# Altium schematic symbol library EP2C20F484C8N.Schlib: 1 symbol
Pins are listed as number, name and electrical type; pins without a type are passive.

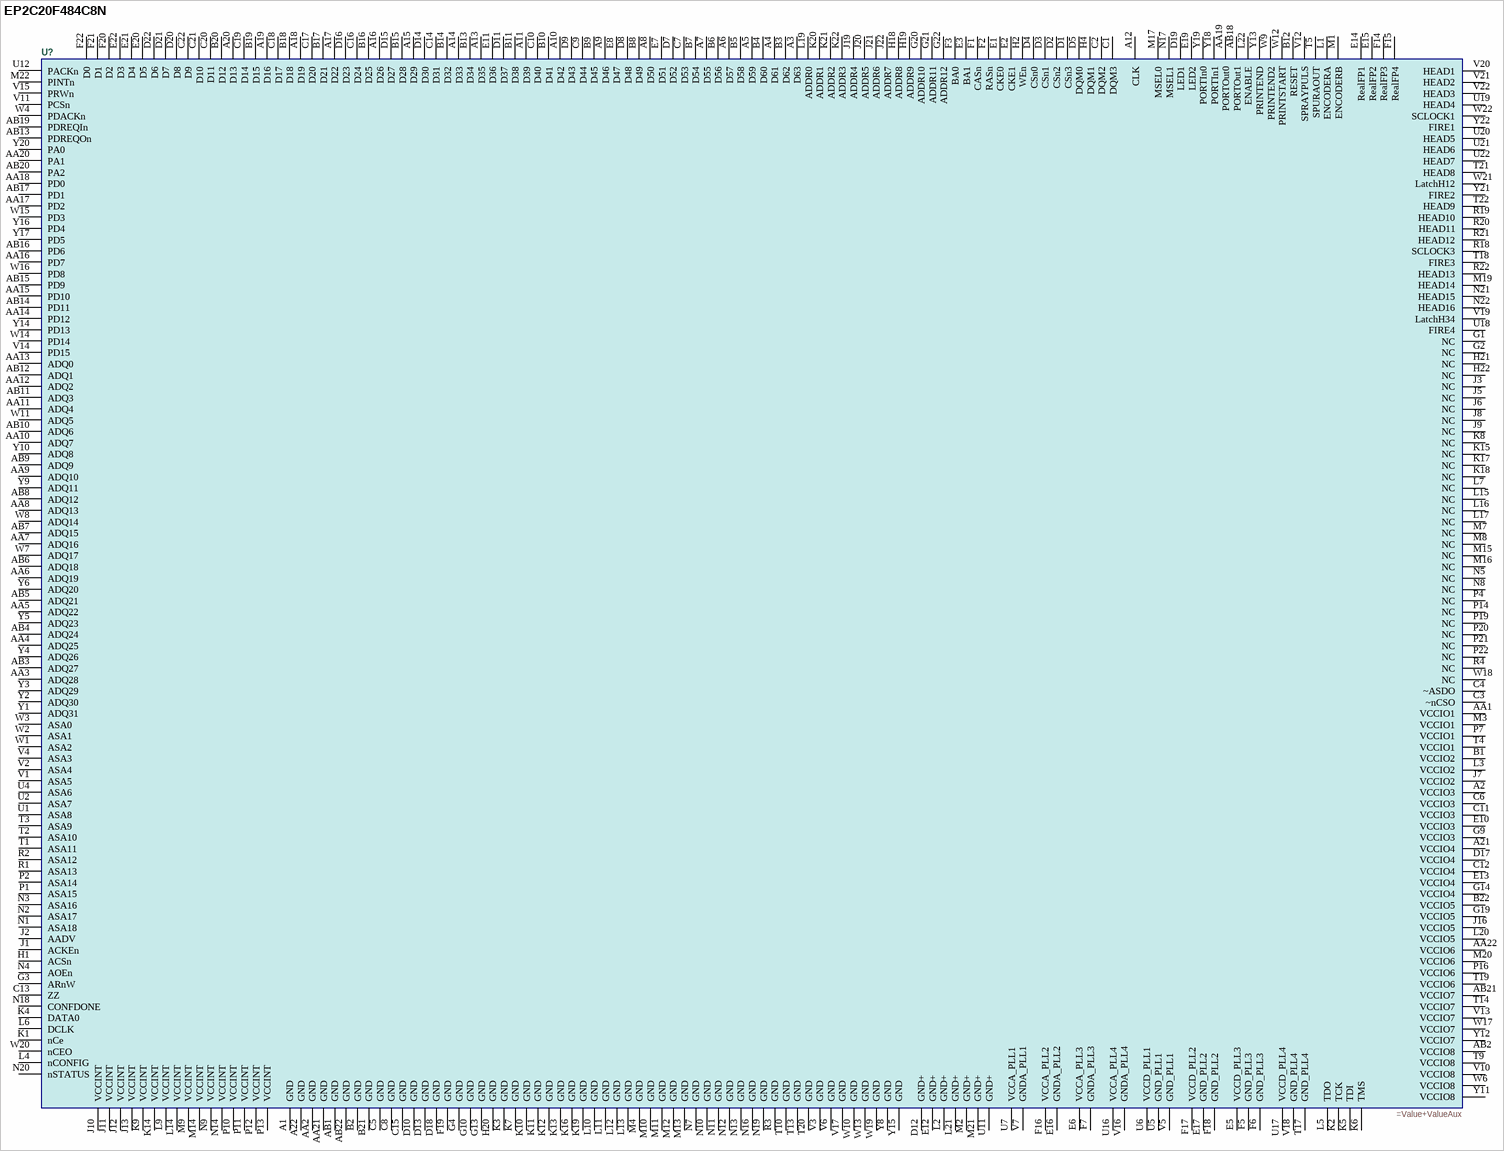
[diagram p0: symbol EP2C20F484C8N]

## EP2C20F484C8N
designator U?
=Description
pins: A1 GND, A2 VCCIO3, A3 D63, A4 D61, A5 D59, A6 D57, A7 D55, A8 D50, A9 D46, A10 D42, A11 D39, A12 CLK, A13 D35, A14 D33, A15 D29, A16 D26, A17 D22, A18 D19, A19 D16, A20 D13, A21 VCCIO4, A22 GND, AA1 VCCIO1, AA2 GND, AA3 ADQ28, AA4 ADQ25, AA5 ADQ22, AA6 ADQ19, AA7 ADQ16, AA8 ADQ13, AA9 ADQ10, AA10 ADQ7, AA11 ADQ4, AA12 ADQ2, AA13 ADQ0, AA14 PD12, AA15 PD10, AA16 PD7, AA17 PD2, AA18 PD0, AA19 PORTOut0, AA20 PA1, AA21 GND, AA22 VCCIO6, AB1 GND, AB2 VCCIO8, AB3 ADQ27, AB4 ADQ24, AB5 ADQ21, AB6 ADQ18, AB7 ADQ15, AB8 ADQ12, AB9 ADQ9, AB10 ADQ6, AB11 ADQ3, AB12 ADQ1, AB13 PDREQOn, AB14 PD11, AB15 PD9, AB16 PD6, AB17 PD1, AB18 PORTOut1, AB19 PDREQIn, AB20 PA2, AB21 VCCIO7, AB22 GND, B1 VCCIO2, B2 GND, B3 D62, B4 D60, B5 D58, B6 D56, B7 D54, B8 D49, B9 D45, B10 D41, B11 D38, B12 RESET, B13 D34, B14 D32, B15 D28, B16 D25, B17 D21, B18 D18, B19 D15, B20 D12, B21 GND, B22 VCCIO5, C1 DQM3, C2 DQM2, C3 ~nCSO, C4 ~ASDO, C5 GND, C6 VCCIO3, C7 D53, C8 GND, C9 D44, C10 D40, C11 VCCIO3, C12 VCCIO4, C13 ZZ, C14 D31, C15 GND, C16 D24, C17 D20, C18 D17, C19 D14, C20 D11, C21 D10, C22 D9, D1 CSn3, D2 CSn2, D3 CSn1, D4 CSn0, D5 DQM0, D7 D52, D8 D48, D9 D43, D10 GND, D11 D37, D12 GND+, D13 GND, D14 D30, D15 D27, D16 D23, D17 VCCIO4, D18 GND, D19 LED1, D20 D8, D21 D7, D22 D6, E1 CKE0, E2 CKE1, E3 BA1, E5 VCCD_PLL3, E6 VCCA_PLL3, E7 D51, E8 D47, E10 VCCIO3, E11 D36, E12 GND+, E13 VCCIO4, E14 RealFP1, E15 RealFP2, E16 GNDA_PLL2, E17 GND_PLL2, E19 LED2, E20 D5, E21 D4, E22 D3, F1 CASn, F2 RASn, F3 BA0, F5 GND_PLL3, F6 GND_PLL3, F7 GNDA_PLL3, F14 RealFP3, F15 RealFP4, F16 VCCA_PLL2, F17 VCCD_PLL2, F18 GND_PLL2, F19 GND, F20 D2, F21 D1, F22 D0, G1 NC, G2 NC, G3 ARnW, G4 GND, G9 VCCIO3, G10 GND, G13 GND, G14 VCCIO4, G19 VCCIO5, G20 ADDR10, G21 ADDR11, G22 ADDR12, H1 ACSn, H2 WEn, H4 DQM1, H18 ADDR8, H19 ADDR9, H20 GND, H21 NC, H22 NC, J1 ACKEn, J2 AADV, J3 NC, J5 NC, J6 NC, J7 VCCIO2, J8 NC, J9 NC, J10 VCCINT, J11 VCCINT, J12 VCCINT, J13 VCCINT, J16 VCCIO5, J19 ADDR4, J20 ADDR5, J21 ADDR6, J22 ADDR7, K1 nCe, K2 TCK, K3 GND, K4 DATA0, K5 TDI, K6 TMS, K7 GND, K8 NC, K9 VCCINT, K10 GND, K11 GND, K12 GND, K13 GND, K14 VCCINT, K15 NC, K16 GND, K17 NC, K18 NC, K19 GND, K20 ADDR1, K21 ADDR2, K22 ADDR3, L1 ENCODERA, L2 GND+, L3 VCCIO2, L4 nCONFIG, L5 TDO, L6 DCLK, L7 NC, L9 VCCINT, L10 GND, L11 GND, L12 GND, L13 GND, L14 VCCINT, L15 NC, L16 NC, L17 NC, L19 ADDR0, L20 VCCIO5, L21 GND+, L22 ENABLE, M1 ENCODERB, M2 GND+, M3 VCCIO1, M4 GND, M7 NC, M8 NC, M9 VCCINT, M10 GND, M11 GND, M12 GND, M13 GND, M14 VCCINT, M15 NC, M16 NC, M17 MSEL0, M19 HEAD14, M20 VCCIO6, M21 GND+, M22 PINTn, N1 ASA18, N2 ASA17, N3 ASA16, N4 AOEn, N5 NC, N7 GND, N8 NC, N9 VCCINT, N10 GND, N11 GND, N12 GND, N13 GND, N14 VCCINT, N16 GND, N17 MSEL1, N18 CONFDONE, N19 GND, N20 nSTATUS, N21 HEAD15, N22 HEAD16, P1 ASA15, P2 ASA14, P4 NC, P7 VCCIO1, P10 VCCINT, P11 VCCINT, P12 VCCINT, P13 VCCINT, P14 NC, P16 VCCIO6, P19 NC, P20 NC, P21 NC, P22 NC, R1 ASA13, R2 ASA12, R3 GND, R4 NC, R18 SCLOCK3, R19 HEAD10, R20 HEAD11, R21 HEAD12, R22 HEAD13, T1 ASA11, T2 ASA10, T3 ASA9, T4 VCCIO1, T5 SPURAOUT, T9 VCCIO8, T10 GND, T13 GND, T14 VCCIO7, T17 GND_PLL4, T18 FIRE3, T19 VCCIO6, T20 GND, T21 HEAD8, T22 HEAD9, U1 ASA8, U2 ASA7, U4 ASA6, U5 GND_PLL1, U6 VCCD_PLL1, U7 VCCA_PLL1, U11 GND+, U12 PACKn, U16 VCCA_PLL4, U17 VCCD_PLL4, U18 FIRE4, U19 HEAD4, U20 HEAD5, U21 HEAD6, U22 HEAD7, V1 ASA5, V2 ASA4, V3 GND, V4 ASA3, V5 GND_PLL1, V6 GND, V7 GNDA_PLL1, V10 VCCIO8, V11 PCSn, V12 SPRAYPULS, V13 VCCIO7, V14 PD15, V15 PRWn, V16 GNDA_PLL4, V17 GND, V18 GND_PLL4, V19 LatchH34, V20 HEAD1, V21 HEAD2, V22 HEAD3, W1 ASA2, W2 ASA1, W3 ASA0, W4 PDACKn, W6 VCCIO8, W7 ADQ17, W8 ADQ14, W9 PRINTEND2, W10 GND, W11 ADQ5, W12 PRINTSTART, W13 GND, W14 PD14, W15 PD3, W16 PD8, W17 VCCIO7, W18 NC, W19 GND, W20 nCEO, W21 LatchH12, W22 SCLOCK1, Y1 ADQ31, Y2 ADQ30, Y3 ADQ29, Y4 ADQ26, Y5 ADQ23, Y6 ADQ20, Y8 GND, Y9 ADQ11, Y10 ADQ8, Y11 VCCIO8, Y12 VCCIO7, Y13 PRINTEND, Y14 PD13, Y15 GND, Y16 PD4, Y17 PD5, Y18 PORTIn1, Y19 PORTIn0, Y20 PA0, Y21 FIRE2, Y22 FIRE1